# Altium footprint library Sangjian_Pcb.PcbLib: 434 footprints (part 26 of 28)
Each footprint in its own frame and in the unit in brackets; x right, y up, seen from the top. Pads: shape width x height; smd on the part's side, far side on the other; paste and mask are expansions set on the pad; w line width, h text height; cw(c..) or ccw(c..) is an arc to the next point about the centre after c.
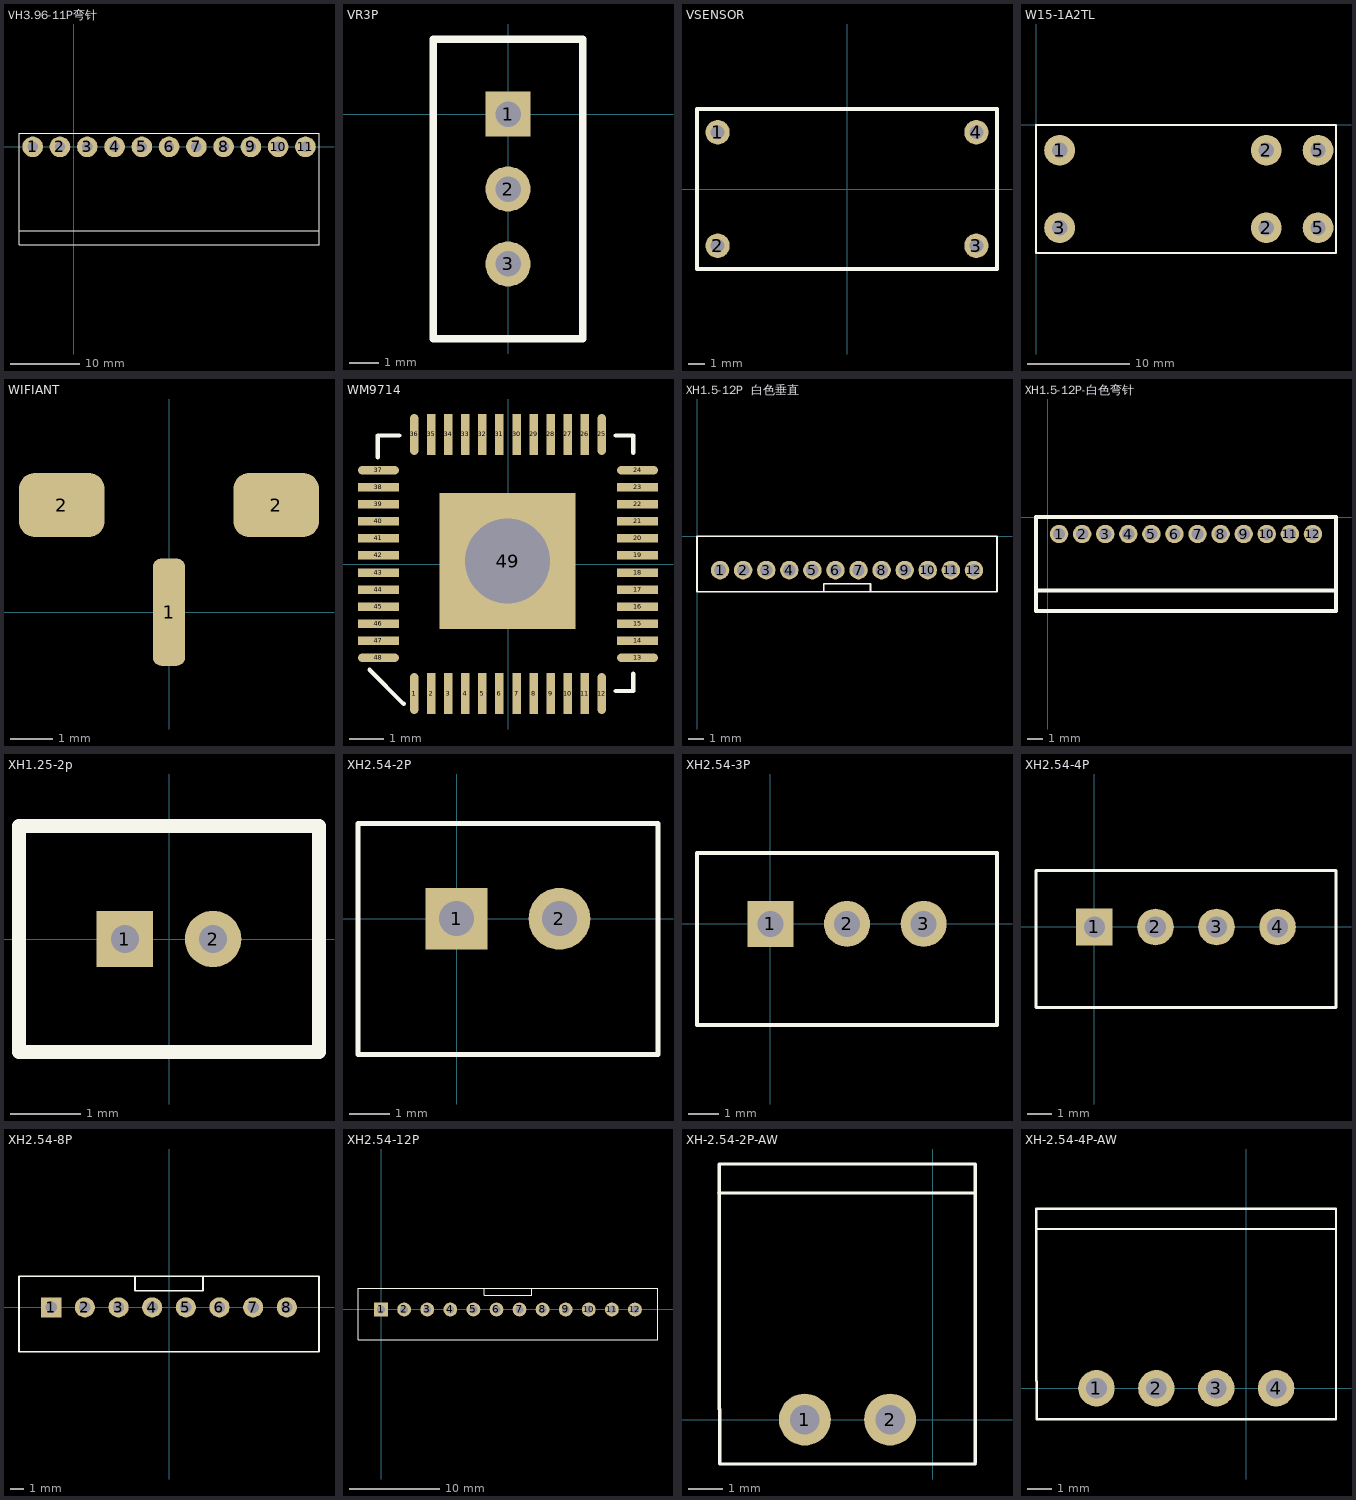
[diagram p25: the footprints below, top view; thin cyan lines are the x and y axes]

## VH3.96-11P弯针 [mm]
pads (11):
  round 3 hole 1.5: 1(-5.94,0) 2(-1.98,0) 3(1.98,0) 4(5.94,0) 5(9.9,0) 6(13.86,0) 7(17.82,0) 8(21.78,0) 9(25.74,0) 10(29.7,0) 11(33.66,0)
Top Overlay:
  lines w0.1: -7.93,-12.211 35.629,-12.211 ; -7.915,-14.2 -7.915,1.955 35.629,1.955 35.629,-14.2 -7.89,-14.2

## VR3P [mil]
pads (3):
  rect 60x60 hole 34: 1(0,0)
  round 60 hole 34: 2(0,-100) 3(0,-200)
Top Overlay:
  lines w10: -100,-300 100,-300 100,100 -100,100 -100,-300

## VSENSOR [mil]
pads (4):
  round 60 hole 34: 1(-319.29,139.96) 2(-319.29,-139.96) 3(319.29,-139.96) 4(319.29,139.96)
Top Overlay:
  lines w10: -370.08,-196.85 370.08,-196.85 370.08,196.85 -370.08,196.85 -370.08,-196.85

## W15-1A2TL [mm] "16A/ 250VAC"
pads (6):
  round 3 hole 1.5: 1(2.3,-2.47) 2(22.46,-10.03) 2(22.46,-2.47) 3(2.3,-10.03) 5(27.5,-10.03) 5(27.5,-2.47)
Top Overlay:
  lines w0.2: 0,-12.5 29.254,-12.5 29.254,0 0,0 0,-12.5

## WIFIANT [mil]
pads (3):
  rrect50% 30x100 smd: 1(0,0)
  rrect50% 80x60 smd: 2(-100,100) 2(100,100)

## WM9714 [mm]
pads (49):
  oval 0.25x1.2 smd: 1(-2.75,-3.8) 12(2.75,-3.8) 25(2.75,3.8) 36(-2.75,3.8)
  rect 0.25x1.2 smd: 2(-2.25,-3.8) 3(-1.75,-3.8) 4(-1.25,-3.8) 5(-0.75,-3.8) 6(-0.25,-3.8) 7(0.25,-3.8) 8(0.75,-3.8) 9(1.25,-3.8) 10(1.75,-3.8) 11(2.25,-3.8) 26(2.25,3.8) 27(1.75,3.8) 28(1.25,3.8) 29(0.75,3.8) 30(0.25,3.8) 31(-0.25,3.8) 32(-0.75,3.8) 33(-1.25,3.8) 34(-1.75,3.8) 35(-2.25,3.8)
  oval 1.2x0.25 smd: 13(3.8,-2.75) 24(3.8,2.75) 37(-3.8,2.75) 48(-3.8,-2.75)
  rect 1.2x0.25 smd: 14(3.8,-2.25) 15(3.8,-1.75) 16(3.8,-1.25) 17(3.8,-0.75) 18(3.8,-0.25) 19(3.8,0.25) 20(3.8,0.75) 21(3.8,1.25) 22(3.8,1.75) 23(3.8,2.25) 38(-3.8,2.25) 39(-3.8,1.75) 40(-3.8,1.25) 41(-3.8,0.75) 42(-3.8,0.25) 43(-3.8,-0.25) 44(-3.8,-0.75) 45(-3.8,-1.25) 46(-3.8,-1.75) 47(-3.8,-2.25)
  rect 4x4 hole 2.5: 49(-0.013,0.087)
Top Overlay:
  lines w0.127: -4.061,-3.104 -3.061,-4.104 ; -3.823,3.135 -3.823,3.77 -3.188,3.77 ; 3.162,-3.723 3.67,-3.723 3.67,-3.215 ; 3.162,3.77 3.67,3.77 3.67,3.262

## XH1.5-12P  白色垂直 [mm]
pads (12):
  round 1.2 hole 0.8: 1(1.5,-2.2) 2(3,-2.2) 3(4.5,-2.2) 4(6,-2.2) 5(7.5,-2.2) 6(9,-2.2) 7(10.5,-2.2) 8(12,-2.2) 9(13.5,-2.2) 10(15,-2.2) 11(16.5,-2.2) 12(18,-2.2)
Top Overlay:
  lines w0.1: 8.23,-3.607 8.23,-3.099 11.278,-3.099 11.278,-3.581 ; 0,-3.6 19.5,-3.6 19.5,0 0,0 0,-3.6

## XH1.5-12P-白色弯针 [mm]
pads (12):
  round 1.2 hole 0.8: 1(0.75,-1.1) 2(2.25,-1.1) 3(3.75,-1.1) 4(5.25,-1.1) 5(6.75,-1.1) 6(8.25,-1.1) 7(9.75,-1.1) 8(11.25,-1.1) 9(12.75,-1.1) 10(14.25,-1.1) 11(15.75,-1.1) 12(17.25,-1.1)
Top Overlay:
  lines w0.254: -0.737,-4.775 18.669,-4.775 ; -0.75,-6.1 18.75,-6.1 18.75,0 -0.75,0 -0.75,-6.1

## XH1.25-2p [mm]
pads (2):
  rect 0.8x0.8 hole 0.4: 1(-0.625,0)
  round 0.8 hole 0.4: 2(0.625,0)
Top Overlay:
  lines w0.2: -2.125,-1.6 2.125,-1.6 2.125,1.6 -2.125,1.6 -2.125,-1.6

## XH2.54-2P [mil]
pads (2):
  rect 60x60 hole 34: 1(0,0)
  round 60 hole 34: 2(100,0)
Top Overlay:
  lines w5: -95.67,-131.89 195.67,-131.89 195.67,92.52 -95.67,92.52 -95.67,-131.89

## XH2.54-3P [mil]
pads (3):
  rect 60x60 hole 34: 1(0,0)
  round 60 hole 34: 2(100,0) 3(200,0)
Top Overlay:
  lines w5: -95.67,-131.89 295.67,-131.89 295.67,92.52 -95.67,92.52 -95.67,-131.89

## XH2.54-4P [mil]
pads (4):
  rect 60x60 hole 34: 1(0,0)
  round 60 hole 34: 2(100,0) 3(200,0) 4(300,0)
Top Overlay:
  lines w5: -95.67,-131.89 -95.67,92.52 395.67,92.52 395.67,-131.89 -95.67,-131.89

## XH2.54-8P [mil]
pads (8):
  rect 60x60 hole 34: 1(-350,-0.01)
  round 60 hole 34: 2(-250,-0.01) 3(-150,-0.01) 4(-50,-0.01) 5(50,0.01) 6(150,0.01) 7(250,0.01) 8(350,0.01)
Top Overlay:
  lines w5: -101.13,90.4 -101.13,49.4 100.87,49.4 100.87,92.4 ; -445.67,-131.9 445.67,-131.9 445.67,92.51 -445.67,92.51 -445.67,-131.9

## XH2.54-12P [mil]
pads (12):
  rect 60x60 hole 34: 1(0,0)
  round 60 hole 34: 2(100,0) 3(200,0) 4(300,0) 5(400,0) 6(500,0) 7(600,0) 8(700,0) 9(800,0) 10(900,0) 11(1000,0) 12(1100,0)
Top Overlay:
  lines w5: 446,90 446,61 652,61 652,92 ; -100,-131.89 1200,-131.89 1200,92.52 -100,92.52 -100,-131.89

## XH-2.54-2P-AW [mil]
pads (2):
  round 60 hole 34: 1(-147.64,0) 2(-49.21,0)
Top Overlay:
  lines w3.94: -247.06,261.81 49.21,261.81 ; -246.52,11.81 -246.52,295.28 49.21,295.28 ; -246.06,-51.24 49.21,-51.24 ; -246.06,-51.19 -246.06,11.81 ; 49.21,-49.19 49.21,14.81 ; 49.21,12.81 49.21,294.81

## XH-2.54-4P-AW [mil]
pads (4):
  round 60 hole 34: 1(-246.06,0) 2(-147.64,0) 3(-49.21,0) 4(49.21,0)
Top Overlay:
  lines w3.94: -345.49,261.81 147.64,261.81 ; -344.95,11.81 -344.95,295.28 147.64,295.28 ; -344.49,-51.24 147.64,-51.24 ; -344.49,-51.19 -344.49,11.81 ; 147.64,-49.19 147.64,14.81 ; 147.64,12.81 147.64,294.81